# Altium footprint library adafruit.PCBLIB: 643 footprints (part 6 of 41)
Each footprint in its own frame and in the unit in brackets; x right, y up, seen from the top. Pads: shape width x height; smd on the part's side, far side on the other; paste and mask are expansions set on the pad; w line width, h text height; cw(c..) or ccw(c..) is an arc to the next point about the centre after c.
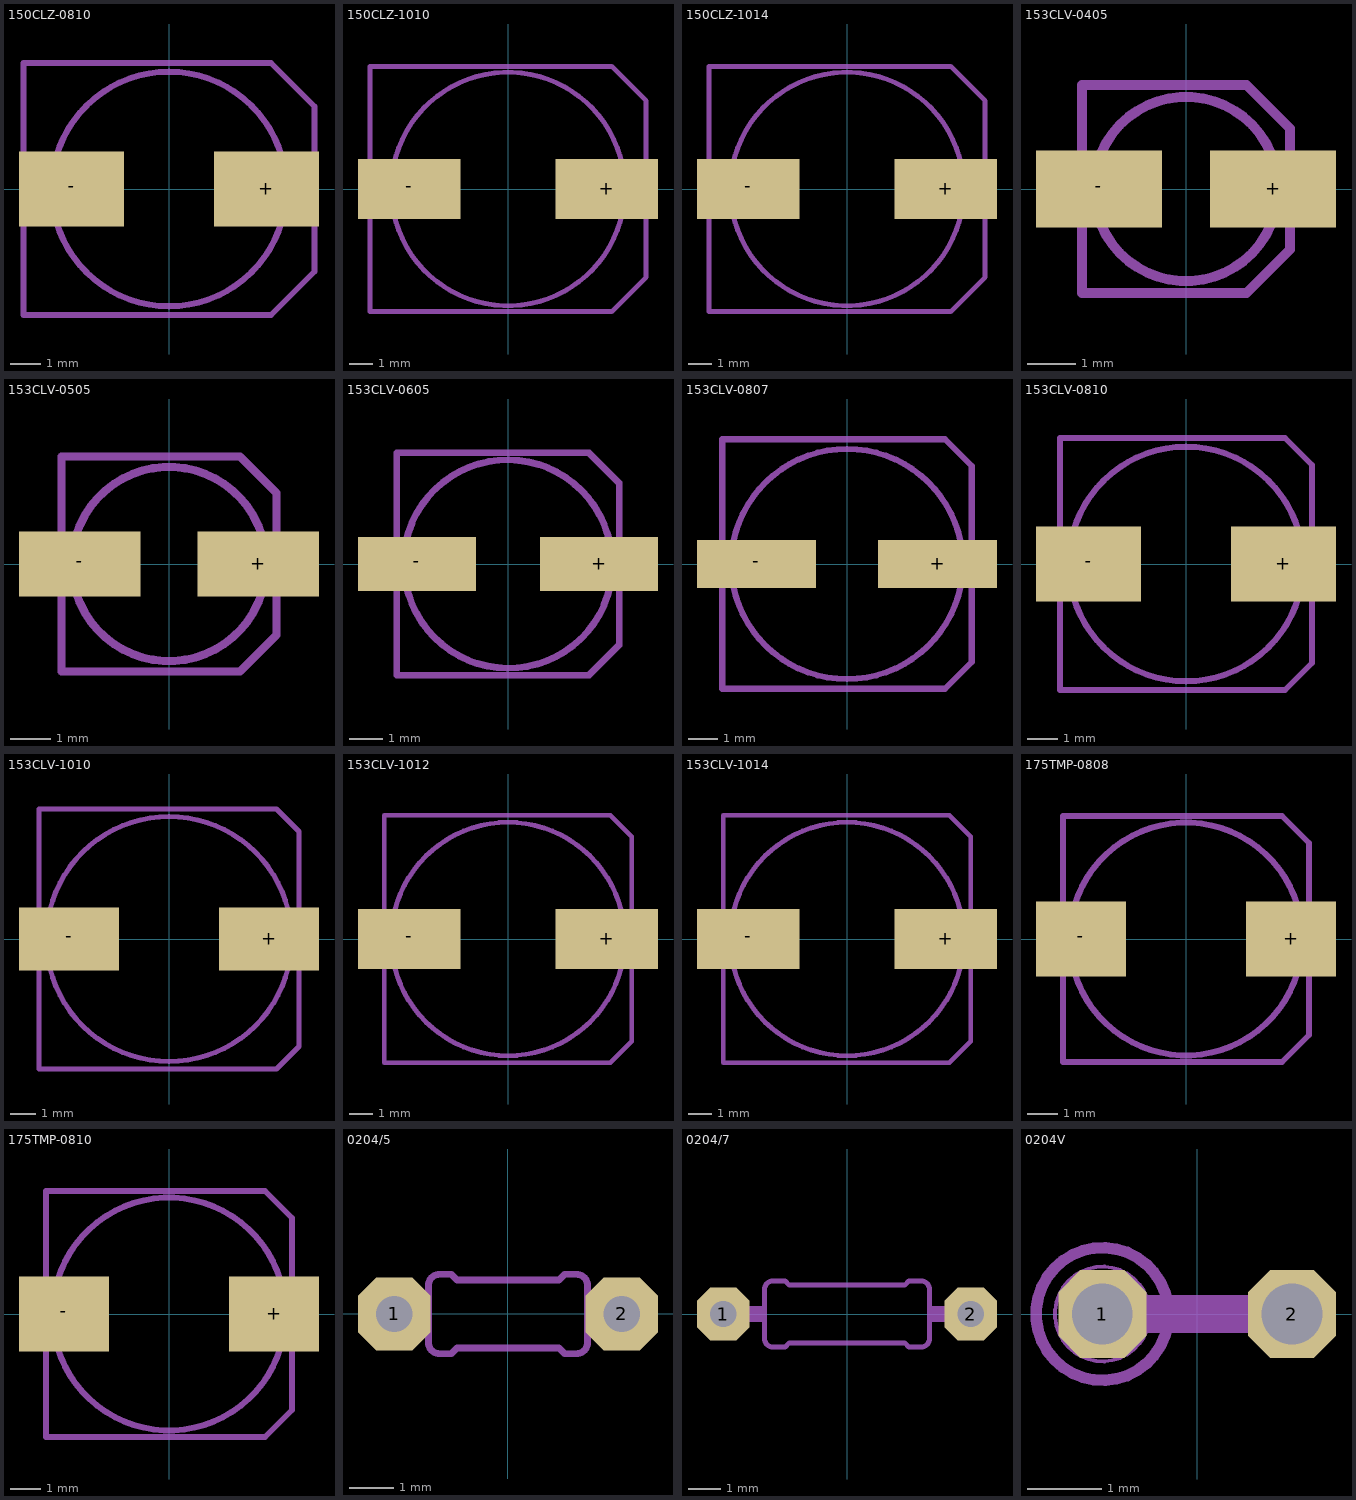
[diagram p5: the footprints below, top view; thin cyan lines are the x and y axes]

## 150CLZ-0810 [mil]
pads (2):
  rect 137.8x98.43 smd: +(127.95,0) -(-127.95,0)
Mechanical 2:
  lines w8: -190.94,-57.09 -190.94,-165.35 133.86,-165.35 190.94,-108.27 190.94,-57.09 ; -190.94,57.09 -190.94,165.35 133.86,165.35 190.94,108.27 190.94,57.09 ; -143.7,-55.12 ccw(c0,0) 143.7,-55.12 ; -143.7,55.12 cw(c0,0) 143.7,55.12
Mechanical 18:
  lines w8: -190.94,-57.09 -190.94,57.09 ; -143.7,-55.12 cw(c0.01,0) -143.7,55.12 ; 143.7,-55.12 ccw(c-0.01,0) 143.7,55.12 ; 190.94,-57.09 190.94,57.09

## 150CLZ-1010 [mil]
pads (2):
  rect 169.29x98.43 smd: +(163.39,0) -(-163.39,0)
Mechanical 2:
  lines w8: -228.35,-57.09 -228.35,-202.76 171.26,-202.76 228.35,-145.67 228.35,-57.09 ; -228.35,57.09 -228.35,202.76 171.26,202.76 228.35,145.67 228.35,57.09 ; -185.04,-55.12 ccw(c0,0) 185.04,-55.12 ; -185.04,55.12 cw(c0,0) 185.04,55.12
Mechanical 18:
  lines w8: -228.35,-57.09 -228.35,57.09 ; -185.04,-55.12 cw(c0.01,0) -185.04,55.12 ; 185.04,-55.12 ccw(c-0.01,0) 185.04,55.12 ; 228.35,-57.09 228.35,57.09

## 150CLZ-1014 [mil]
pads (2):
  rect 169.29x98.43 smd: +(163.39,0) -(-163.39,0)
Mechanical 2:
  lines w8: -228.35,-57.09 -228.35,-202.76 171.26,-202.76 228.35,-145.67 228.35,-57.09 ; -228.35,57.09 -228.35,202.76 171.26,202.76 228.35,145.67 228.35,57.09 ; -185.04,-55.12 ccw(c0,0) 185.04,-55.12 ; -185.04,55.12 cw(c0,0) 185.04,55.12
Mechanical 18:
  lines w8: -228.35,-57.09 -228.35,57.09 ; -185.04,-55.12 cw(c0.01,0) -185.04,55.12 ; 185.04,-55.12 ccw(c-0.01,0) 185.04,55.12 ; 228.35,-57.09 228.35,57.09

## 153CLV-0405 [mil]
pads (2):
  rect 102.36x62.99 smd: +(70.87,0) -(-70.87,0)
Mechanical 2:
  lines w8: -84.65,-43.31 -84.65,-84.65 49.21,-84.65 84.65,-49.21 84.65,-41.34 ; -84.65,43.31 -84.65,84.65 49.21,84.65 84.65,49.21 84.65,43.31 ; -64.96,-37.4 ccw(c0,0) 64.96,-37.4 ; -64.96,37.4 cw(c0,0) 64.96,37.4
Mechanical 18:
  lines w8: -84.65,-43.31 -84.65,43.31 ; -64.96,-37.4 cw(c0,0) -64.96,37.4 ; 64.96,-37.4 ccw(c0,0) 64.96,37.4 ; 84.65,-41.34 84.65,43.31

## 153CLV-0505 [mm]
pads (2):
  rect 3x1.6 smd: +(2.2,0) -(-2.2,0)
Mechanical 2:
  lines w0.203: -2.65,-1.1 -2.65,-2.65 1.75,-2.65 2.65,-1.75 2.65,-1.1 ; -2.65,1.1 -2.65,2.65 1.75,2.65 2.65,1.75 2.65,1.1 ; -2.2,-0.95 ccw(c0,0) 2.2,-0.95 ; -2.2,0.95 cw(c0,0) 2.2,0.95
Mechanical 18:
  lines w0.203: -2.65,-1.1 -2.65,1.1 ; -2.2,-0.95 cw(c0,0) -2.2,0.95 ; 2.2,-0.95 ccw(c0,0) 2.2,0.95 ; 2.65,-1.1 2.65,1.1

## 153CLV-0605 [mil]
pads (2):
  rect 137.8x62.99 smd: +(106.3,0) -(-106.3,0)
Mechanical 2:
  lines w8: -129.92,-43.31 -129.92,-129.92 94.49,-129.92 129.92,-94.49 129.92,-43.31 ; -129.92,43.31 -129.92,129.92 94.49,129.92 129.92,94.49 129.92,43.31 ; -116.14,-35.43 ccw(c0.31,0) 116.14,-37.4 ; -116.14,37.4 cw(c-0.31,0) 116.14,35.43
Mechanical 18:
  lines w8: -129.92,-43.31 -129.92,43.31 ; -116.14,-35.43 cw(c-0.01,0.98) -116.14,37.4 ; 116.14,-37.4 ccw(c0.01,-0.98) 116.14,35.43 ; 129.92,-43.31 129.92,43.31

## 153CLV-0807 [mm]
pads (2):
  rect 4x1.6 smd: +(3.05,0) -(-3.05,0)
Mechanical 2:
  lines w0.203: -4.2,-1.1 -4.2,-4.2 3.3,-4.2 4.2,-3.3 4.2,-1.1 ; -4.2,1.1 -4.2,4.2 3.3,4.2 4.2,3.3 4.2,1.1 ; -3.75,-1.05 ccw(c0,0.025) 3.75,-1.05 ; -3.75,1.05 cw(c0,-0.025) 3.75,1.05
Mechanical 18:
  lines w0.203: -4.2,-1.1 -4.2,1.1 ; -3.75,-1.05 cw(c0,0) -3.75,1.05 ; 3.75,-1.05 ccw(c0,0) 3.75,1.05 ; 4.2,-1.1 4.2,1.1

## 153CLV-0810 [mil]
pads (2):
  rect 137.8x98.43 smd: +(127.95,0) -(-127.95,0)
Mechanical 2:
  lines w8: -165.35,-59.06 -165.35,-165.35 129.92,-165.35 165.35,-129.92 165.35,-59.06 ; -165.35,59.06 -165.35,165.35 129.92,165.35 165.35,129.92 165.35,59.06 ; -143.7,-55.12 ccw(c0,0) 143.7,-55.12 ; -143.7,55.12 cw(c0,0) 143.7,55.12
Mechanical 18:
  lines w8: -165.35,-59.06 -165.35,59.06 ; -143.7,-55.12 cw(c0.01,0) -143.7,55.12 ; 143.7,-55.12 ccw(c-0.01,0) 143.7,55.12 ; 165.35,-59.06 165.35,59.06

## 153CLV-1010 [mm]
pads (2):
  rect 4x2.5 smd: +(4,0) -(-4,0)
Mechanical 2:
  lines w0.203: -5.2,-1.5 -5.2,-5.2 4.3,-5.2 5.2,-4.3 5.2,-1.5 ; -5.2,1.5 -5.2,5.2 4.3,5.2 5.2,4.3 5.2,1.5 ; -4.65,-1.55 ccw(c0,0) 4.65,-1.55 ; -4.65,1.55 cw(c0,0) 4.65,1.55
Mechanical 18:
  lines w0.203: -5.2,-1.5 -5.2,1.5 ; -4.65,-1.55 cw(c0,0) -4.65,1.55 ; 4.65,-1.55 ccw(c0,0) 4.65,1.55 ; 5.2,-1.5 5.2,1.5

## 153CLV-1012 [mil]
pads (2):
  rect 169.29x98.43 smd: +(163.39,0) -(-163.39,0)
Mechanical 2:
  lines w8: -204.72,-59.06 -204.72,-204.72 169.29,-204.72 204.72,-169.29 204.72,-59.06 ; -204.72,59.06 -204.72,204.72 169.29,204.72 204.72,169.29 204.72,59.06 ; -183.07,-61.02 ccw(c0,0) 183.07,-61.02 ; -183.07,61.02 cw(c0,0) 183.07,61.02
Mechanical 18:
  lines w8: -204.72,-59.06 -204.72,59.06 ; -183.07,-61.02 cw(c-0.01,0) -183.07,61.02 ; 183.07,-61.02 ccw(c0.01,0) 183.07,61.02 ; 204.72,-59.06 204.72,59.06

## 153CLV-1014 [mil]
pads (2):
  rect 169.29x98.43 smd: +(163.39,0) -(-163.39,0)
Mechanical 2:
  lines w8: -204.72,-59.06 -204.72,-204.72 169.29,-204.72 204.72,-169.29 204.72,-59.06 ; -204.72,59.06 -204.72,204.72 169.29,204.72 204.72,169.29 204.72,59.06 ; -183.07,-61.02 ccw(c0,0) 183.07,-61.02 ; -183.07,61.02 cw(c0,0) 183.07,61.02
Mechanical 18:
  lines w8: -204.72,-59.06 -204.72,59.06 ; -183.07,-61.02 cw(c-0.01,0) -183.07,61.02 ; 183.07,-61.02 ccw(c0.01,0) 183.07,61.02 ; 204.72,-59.06 204.72,59.06

## 175TMP-0808 [mm]
pads (2):
  rect 3x2.5 smd: +(3.5,0) -(-3.5,0)
Mechanical 2:
  lines w0.203: -4.1,-1.55 -4.1,-4.1 3.2,-4.1 4.1,-3.2 4.1,-1.55 ; -4.1,1.55 -4.1,4.1 3.2,4.1 4.1,3.2 4.1,1.5 ; -3.6,-1.45 ccw(c0,0) 3.6,-1.45 ; -3.6,1.45 cw(c0,0) 3.6,1.45
Mechanical 18:
  lines w0.203: -4.1,-1.55 -4.1,1.55 ; -3.6,-1.45 cw(c0,0) -3.6,1.45 ; 3.6,-1.45 ccw(c0,0) 3.6,1.45 ; 4.1,-1.55 4.1,1.5

## 175TMP-0810 [mm]
pads (2):
  rect 3x2.5 smd: +(3.5,0) -(-3.5,0)
Mechanical 2:
  lines w0.203: -4.1,-1.55 -4.1,-4.1 3.2,-4.1 4.1,-3.2 4.1,-1.55 ; -4.1,1.55 -4.1,4.1 3.2,4.1 4.1,3.2 4.1,1.5 ; -3.6,-1.45 ccw(c0,0) 3.6,-1.45 ; -3.6,1.45 cw(c0,0) 3.6,1.45
Mechanical 18:
  lines w0.203: -4.1,-1.55 -4.1,1.55 ; -3.6,-1.45 cw(c0,0) -3.6,1.45 ; 3.6,-1.45 ccw(c0,0) 3.6,1.45 ; 4.1,-1.55 4.1,1.5

## 0204/5 [mil]
pads (2):
  oct 63.9x63.9 hole 32: 1(-100,0) 2(100,0)
Mechanical 2:
  lines w6: -70,-25 ccw(c-60,-25) -60,-35 -50,-35 -45,-30 45,-30 50,-35 60,-35 ccw(c60,-25) 70,-25 ; -70,25 cw(c-60,25) -60,35 -50,35 -45,30 45,30 50,35 60,35 cw(c60,25) 70,25
Mechanical 18:
  rectangle: -80,-10 -70,10
  rectangle: 70,-10 80,10
  lines w6: -70,-25 -70,25 ; 70,-25 70,25
  lines w20: -100,0 -80,0 ; 80,0 100,0

## 0204/7 [mil]
pads (2):
  oct 63.9x63.9 hole 32: 1(-150,0) 2(150,0)
Mechanical 2:
  rectangle: 100,-10 115,10
  rectangle: -115,-10 -100,10
  lines w6: -100,-30 ccw(c-90,-30) -90,-40 -75,-40 -70,-35 70,-35 75,-40 90,-40 ccw(c90,-30) 100,-30 100,30 ccw(c90,30) 90,40 75,40 70,35 -70,35 -75,40 -90,40 ccw(c-90,30) -100,30 -100,-30
Mechanical 18:
  lines w20: -150,0 -115,0 ; 115,0 150,0

## 0204V [mil]
pads (2):
  oct 46.48x46.48 hole 32: 1(-50,0) 2(50,0)
Mechanical 2:
  lines w20: -5,0 5,0
Mechanical 18:
  circle w6: c-50,0 r35
  circle w2: c-50,0 r25
  lines w20: -50,0 50,0